# Altium schematic symbol library Symbols.SchLib: 4 symbols
Pins are listed as number, name and electrical type; pins without a type are passive.

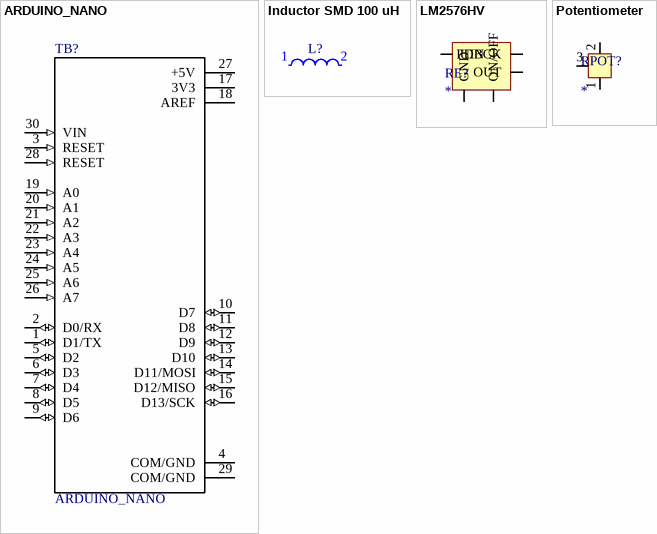
[diagram p0: symbols ARDUINO_NANO to Potentiometer]

## ARDUINO_NANO
designator TB?
ATmega328 Arduino Nano AVRÂ® ATmega AVR MCU 8-Bit Embedded Evaluation Board; MF: Arduino; SnapEDA_Link: https://www.snapeda.com/parts/ARDUINO%20NANO/Arduino/view-part/1128261/?ref=snap; Price: None; Availability: Unavailable; MP: ARDUINO NANO; Package: None; Value: *
footprint *SHIELD_ARDUINO_NANO
pins: 1 D1/TX (io), 2 D0/RX (io), 3 RESET (in), 4 COM/GND (power), 5 D2 (io), 6 D3 (io), 7 D4 (io), 8 D5 (io), 9 D6 (io), 10 D7 (io), 11 D8 (io), 12 D9 (io), 13 D10 (io), 14 D11/MOSI (io), 15 D12/MISO (io), 16 D13/SCK (io), 17 3V3 (power), 18 AREF (power), 19 A0 (in), 20 A1 (in), 21 A2 (in), 22 A3 (in), 23 A4 (in), 24 A5 (in), 25 A6 (in), 26 A7 (in), 27 +5V (power), 28 RESET (in), 29 COM/GND (power), 30 VIN (in)

## Inductor SMD 100 uH
designator L?  (value not drawn)
footprint Inductor 100uH
pins: 1, 2

## LM2576HV
designator RE?
pins: 1 UIN, 2 OUT, 3 GND, 4 FDBCK, 5 ON/OFF

## Potentiometer
designator RPOT?
potentiometer 10k
footprint Potentiometer 10k
pins: 1, 2, 3